# Altium schematic symbol library MAU-300.SchLib: 1 symbol
Pins are listed as number, name and electrical type; pins without a type are passive.

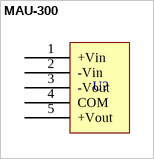
[diagram p0: symbol MAU-300]

## MAU-300
designator U?
Single & Dual Output DC/DC Converters
pins: 1 +Vin, 2 -Vin, 3 -Vout, 4 COM, 5 +Vout